# Altium schematic symbol library SCH - PASSIVES - POLARISED CAPACITOR.SCHLIB: 1 symbol
Pins are listed as number, name and electrical type; pins without a type are passive.

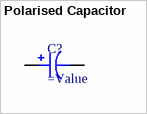
[diagram p0: symbol Polarised Capacitor]

## Polarised Capacitor
designator C?
SMT Polarised Capacitor
footprint CAP POL 2917/7343 (Molded Capacitor, 2-Leads, Body 7.30x4.30mm, IPC Medium Density)
pins: 1, 2